# EAGLE library part ROTARY_ENCODER_RGB (library DWM)
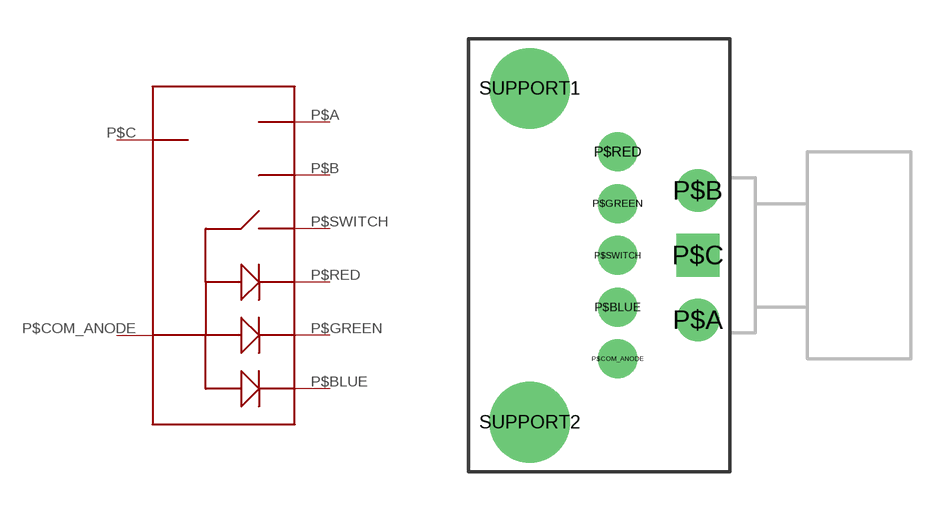
[diagram p5: symbol with the pads of ROTARY_ENCODER_RGB_90; footprint ROTARY_ENCODER_RGB_90]

Designator prefix 90

## ROTARY_ENCODER_RGB90_DEGREES (DATASHEET: https://www.sparkfun.com/products/retired/10984)  [ROTARY_ENCODER_RGB_90]
P$A  P$A
P$B  P$B
P$BLUE  P$BLUE
P$C  P$C
P$COM_ANODE  P$ANODE
P$GREEN  P$GREEN
P$RED  P$RED
P$SWITCH  P$SWITCH

## Footprint ROTARY_ENCODER_RGB_90 (pad centres in mm)
drill 1.1: P$A 6.5,-2.5; P$B 6.5,2.5
drill 1: P$BLUE 3.4,-2; P$COM_ANODE 3.4,-4; P$GREEN 3.4,2; P$RED 3.4,4; P$SWITCH 3.4,0
drill 1.1 square: P$C 6.5,0
drill 2.1: SUPPORT1 0,6.45; SUPPORT2 0,-6.45